# EAGLE library part CON-3M_2510- (library CarWarsPCBv_3)
3M (TM) Pak 100 4-Wall Header Source: 3M
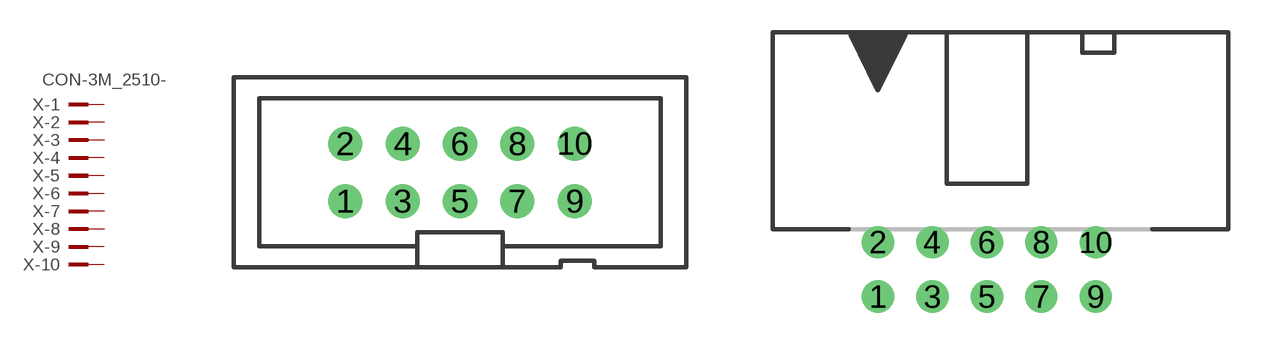
[diagram p2: symbol with the pads of CON-3M_PAK100/2500-10; footprints CON-3M_PAK100/2500-10, CON-3M_PAK100/2500-5-10]

Designator prefix X; gates -1=CON-3M_PINV -2=CON-3M_PIN -3=CON-3M_PIN -4=CON-3M_PIN -5=CON-3M_PIN -6=CON-3M_PIN -7=CON-3M_PIN -8=CON-3M_PIN -9=CON-3M_PIN -10=CON-3M_PIN

## CON-3M_2510- (MF: 3M; MPN: 2510-6002UB; OC_FARNELL: 9838244; OC_NEWARK: 46F4725)  [CON-3M_PAK100/2500-10]
1  -1:KL  pas
2  -2:KL  pas
3  -3:KL  pas
4  -4:KL  pas
5  -5:KL  pas
6  -6:KL  pas
7  -7:KL  pas
8  -8:KL  pas
9  -9:KL  pas
10  -10:KL  pas

## CON-3M_2510-5 (OC_FARNELL: 1788669; OC_NEWARK: unknown)  [CON-3M_PAK100/2500-5-10]
Pads as for CON-3M_PAK100/2500-10

## Footprint CON-3M_PAK100/2500-10 (pad centres in mm)
3M (TM) Pak 100 4-Wall Header Straight Source: 3M
drill 1 pad 1.422: 1 -5.08,-1.27; 2 -5.08,1.27; 3 -2.54,-1.27; 4 -2.54,1.27; 5 0,-1.27; 6 0,1.27; 7 2.54,-1.27; 8 2.54,1.27; 9 5.08,-1.27; 10 5.08,1.27

## Footprint CON-3M_PAK100/2500-5-10 (pad centres in mm)
3M (TM) Pak 100 4-Wall Header Right Angle Source: 3M
drill 1 pad 1.422: 1 -5.08,-1.27; 2 -5.08,1.27; 3 -2.54,-1.27; 4 -2.54,1.27; 5 0,-1.27; 6 0,1.27; 7 2.54,-1.27; 8 2.54,1.27; 9 5.08,-1.27; 10 5.08,1.27